# Altium schematic symbol library RTL8211F-CG.SchLib: 1 symbol
Pins are listed as number, name and electrical type; pins without a type are passive.

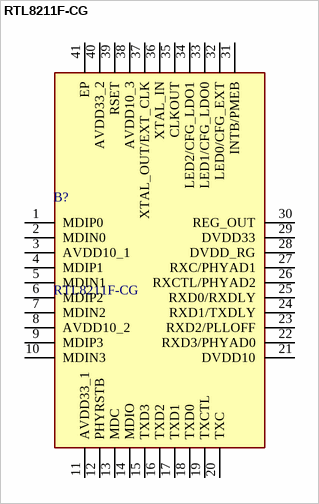
[diagram p0: symbol RTL8211F-CG]

## RTL8211F-CG
designator B?
NTEGRATED 10/100/1000M ETHERNET TRANSCEIVER; Manufacturer_Name: Realtek; Geometry.Height: 0.9mm; Manufacturer_Part_Number: RTL8211F-CG; Mouser Part Number: *; Mouser Price/Stock: *; Arrow Part Number: *; Arrow Price/Stock: *; Datasheet Link: *
footprint QFN40P500X500X90-41N-D
pins: 1 MDIP0, 2 MDIN0, 3 AVDD10_1, 4 MDIP1, 5 MDIN1, 6 MDIP2, 7 MDIN2, 8 AVDD10_2, 9 MDIP3, 10 MDIN3, 11 AVDD33_1, 12 PHYRSTB, 13 MDC, 14 MDIO, 15 TXD3, 16 TXD2, 17 TXD1, 18 TXD0, 19 TXCTL, 20 TXC, 21 DVDD10, 22 RXD3/PHYAD0, 23 RXD2/PLLOFF, 24 RXD1/TXDLY, 25 RXD0/RXDLY, 26 RXCTL/PHYAD2, 27 RXC/PHYAD1, 28 DVDD_RG, 29 DVDD33, 30 REG_OUT, 31 INTB/PMEB, 32 LED0/CFG_EXT, 33 LED1/CFG_LDO0, 34 LED2/CFG_LDO1, 35 CLKOUT, 36 XTAL_IN, 37 XTAL_OUT/EXT_CLK, 38 AVDD10_3, 39 RSET, 40 AVDD33_2, 41 EP